# Altium schematic symbol library NEO-M9N.SchLib: 1 symbol
Pins are listed as number, name and electrical type; pins without a type are passive.

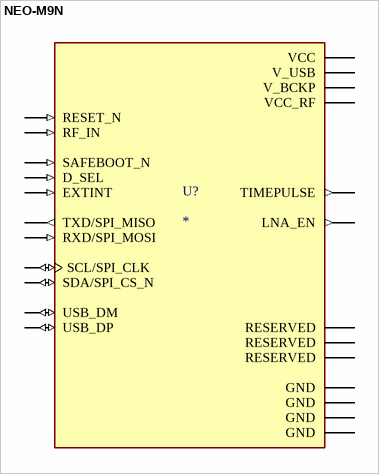
[diagram p0: symbol NEO-M9N]

## NEO-M9N
designator U?
series RF Receiver BeiDou, Galileo, GLONASS, GNSS, GPS - -167dBm - - Module; MP: NEO-M9N; MF: U-Blox; Value: *; SnapEDA_Link: https://www.snapeda.com/parts/NEO-M9N/u-blox/view-part/?ref=snap; Availability: In Stock; Package: SMD-24 u-blox; Check_prices: https://www.snapeda.com/parts/NEO-M9N/u-blox/view-part/?ref=eda; Price: None; Purchase-URL: https://pricing.snapeda.com/search/part/NEO-M9N/?ref=eda
footprint XCVR_NEO-M9N
pins: 1 SAFEBOOT_N (in), 2 D_SEL (in), 3 TIMEPULSE (out), 4 EXTINT (in), 5 USB_DM (io), 6 USB_DP (io), 7 V_USB (power), 8 RESET_N (in), 9 VCC_RF (power), 10 GND (power), 11 RF_IN (in), 12 GND (power), 13 GND (power), 14 LNA_EN (out), 15 RESERVED, 16 RESERVED, 17 RESERVED, 18 SDA/SPI_CS_N (io), 19 SCL/SPI_CLK (io), 20 TXD/SPI_MISO (out), 21 RXD/SPI_MOSI (in), 22 V_BCKP (power), 23 VCC (power), 24 GND (power)